# Altium footprint library PDIP.PcbLib: 5 footprints
Each footprint in its own frame and in the unit in brackets; x right, y up, seen from the top. Pads: shape width x height; smd on the part's side, far side on the other; paste and mask are expansions set on the pad; w line width, h text height; cw(c..) or ccw(c..) is an arc to the next point about the centre after c.
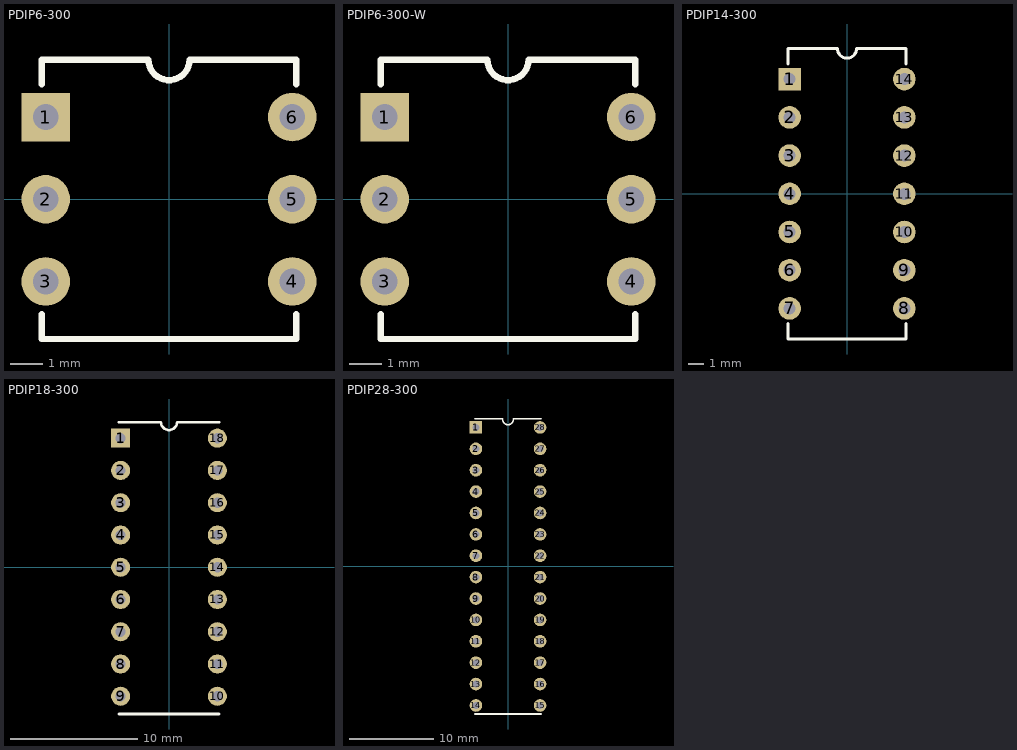
[diagram p0: the footprints below, top view; thin cyan lines are the x and y axes]

## PDIP6-300 [mm] "PDIP6-300"
height 6
pads (6):
  rect 1.5x1.5 hole 0.8: 1(-3.81,2.54)
  round 1.5 hole 0.8: 2(-3.81,0) 3(-3.81,-2.54) 4(3.81,-2.54) 5(3.81,0) 6(3.81,2.54)
Top Overlay:
  lines w0.2: -3.937,-3.556 -3.937,-4.318 3.937,-4.318 3.937,-3.556 ; -3.935,3.558 -3.935,4.318 -0.696,4.318 ; -0.635,4.318 ccw(c0,4.318) 0.635,4.318 ; 0.696,4.318 3.937,4.318 3.937,3.556
3D body "DIL6-300.STEP": height 3.86, standoff -3.25, extent -3.935,-4.25 3.935,4.25

## PDIP6-300-W [mm] "PDIP6-300 White"
height 6
pads (6):
  rect 1.5x1.5 hole 0.8: 1(-3.81,2.54)
  round 1.5 hole 0.8: 2(-3.81,0) 3(-3.81,-2.54) 4(3.81,-2.54) 5(3.81,0) 6(3.81,2.54)
Top Overlay:
  lines w0.2: -3.937,-3.556 -3.937,-4.318 3.937,-4.318 3.937,-3.556 ; -3.935,3.558 -3.935,4.318 -0.696,4.318 ; -0.635,4.318 ccw(c0,4.318) 0.635,4.318 ; 0.696,4.318 3.937,4.318 3.937,3.556
3D body "DIL6-300-W.STEP": height 3.86, standoff -3.25, extent -3.935,-4.25 3.935,4.25

## PDIP14-300 [mm] "PDIP14-300"
height 6
pads (14):
  rect 1.5x1.5 hole 0.8: 1(-3.81,7.62)
  round 1.5 hole 0.8: 2(-3.81,5.08) 3(-3.81,2.54) 4(-3.81,0) 5(-3.81,-2.54) 6(-3.81,-5.08) 7(-3.81,-7.62) 8(3.81,-7.62) 9(3.81,-5.08) 10(3.81,-2.54) 11(3.81,0) 12(3.81,2.54) 13(3.81,5.08) 14(3.81,7.62)
Top Overlay:
  lines w0.2: -3.937,-8.636 -3.937,-9.652 3.937,-9.652 3.937,-8.636 ; -3.935,8.638 -3.935,9.652 -0.696,9.652 ; -0.635,9.652 ccw(c0,9.652) 0.635,9.652 ; 0.696,9.652 3.937,9.652 3.937,8.636
3D body "DIL14-300.STEP": height 3.86, standoff -3.25, extent -3.935,-9.65 3.935,9.65

## PDIP18-300 [mm] "PDIP18-300"
height 4
pads (18):
  rect 1.5x1.5 hole 0.8: 1(-3.81,10.16)
  round 1.5 hole 0.8: 2(-3.81,7.62) 3(-3.81,5.08) 4(-3.81,2.54) 5(-3.81,0) 6(-3.81,-2.54) 7(-3.81,-5.08) 8(-3.81,-7.62) 9(-3.81,-10.16) 10(3.81,-10.16) 11(3.81,-7.62) 12(3.81,-5.08) 13(3.81,-2.54) 14(3.81,0) 15(3.81,2.54) 16(3.81,5.08) 17(3.81,7.62) 18(3.81,10.16)
Top Overlay:
  lines w0.2: -3.937,-11.557 3.937,-11.557 ; -3.937,11.43 -0.635,11.43 ccw(c0,11.43) 0.635,11.43 3.937,11.43
3D body "DIL18-300.step": height 3.17, standoff -3.29, extent -3.94,-11.557 3.94,11.303

## PDIP28-300 [mm] "PDIP28-300"
height 4
pads (28):
  rect 1.5x1.5 hole 0.8: 1(-3.81,16.51)
  round 1.5 hole 0.8: 2(-3.81,13.97) 3(-3.81,11.43) 4(-3.81,8.89) 5(-3.81,6.35) 6(-3.81,3.81) 7(-3.81,1.27) 8(-3.81,-1.27) 9(-3.81,-3.81) 10(-3.81,-6.35) 11(-3.81,-8.89) 12(-3.81,-11.43) 13(-3.81,-13.97) 14(-3.81,-16.51) 15(3.81,-16.51) 16(3.81,-13.97) 17(3.81,-11.43) 18(3.81,-8.89) 19(3.81,-6.35) 20(3.81,-3.81) 21(3.81,-1.27) 22(3.81,1.27) 23(3.81,3.81) 24(3.81,6.35) 25(3.81,8.89) 26(3.81,11.43) 27(3.81,13.97) 28(3.81,16.51)
Top Overlay:
  lines w0.2: -3.937,-17.526 3.937,-17.526 ; -3.937,17.526 -0.635,17.526 ; -0.635,17.399 ccw(c0,17.466) 0.635,17.399 ; 0.635,17.526 3.937,17.526
3D body "DIL28-300.STEP": height 3.86, standoff -3.25, extent -3.935,-17.335 3.935,17.335